# Altium footprint library 二极管.PcbLib: 7 footprints
Each footprint in its own frame and in the unit in brackets; x right, y up, seen from the top. Pads: shape width x height; smd on the part's side, far side on the other; paste and mask are expansions set on the pad; w line width, h text height; cw(c..) or ccw(c..) is an arc to the next point about the centre after c.
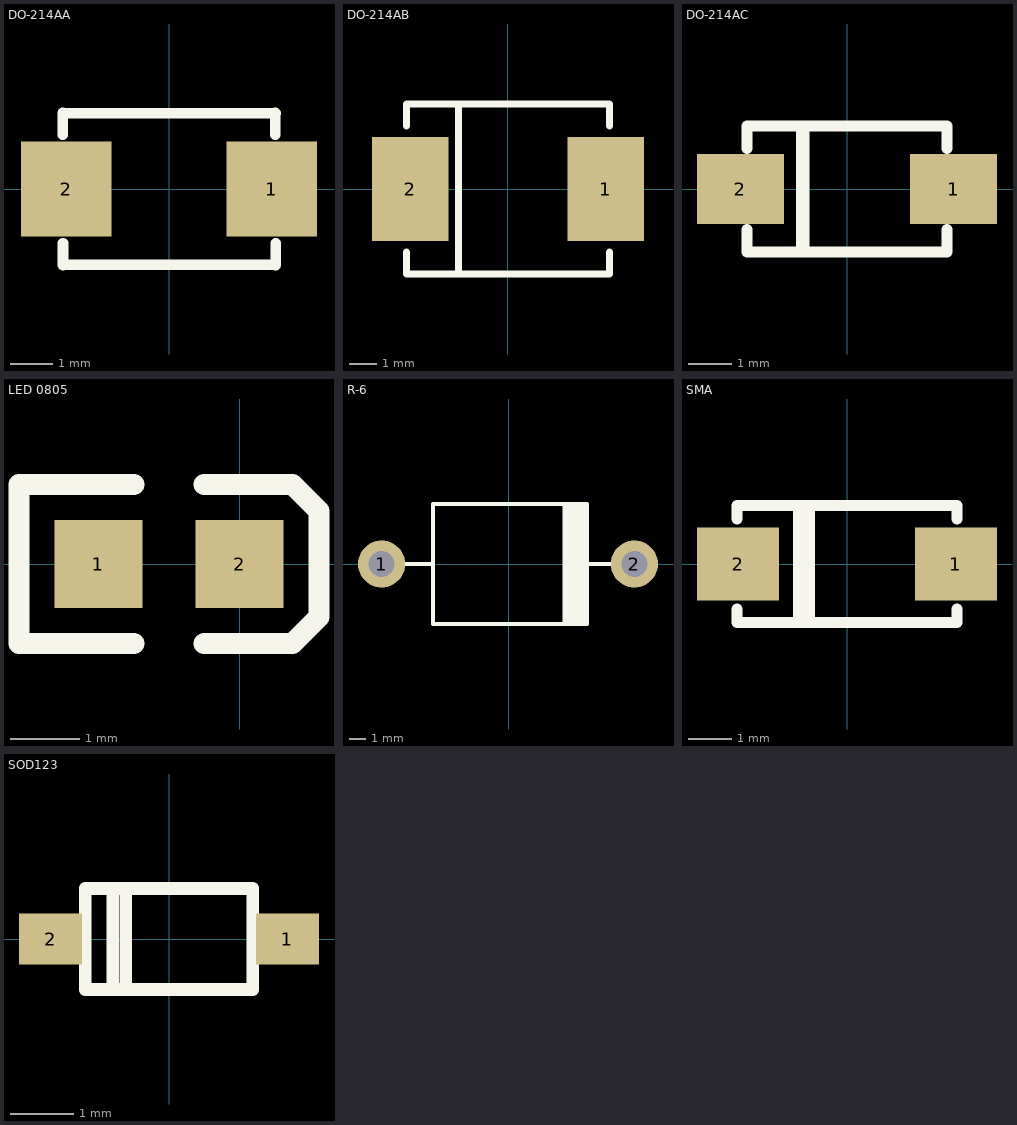
[diagram p0: the footprints below, top view; thin cyan lines are the x and y axes]

## DO-214AA [mm]
pads (2):
  rect 2.16x2.26 smd: 1(2.45,0) 2(-2.45,0)
Top Overlay:
  lines w0.254: -2.54,1.295 -2.54,1.814 ; -2.535,-1.81 2.545,-1.81 ; -2.535,1.81 2.545,1.81 ; -2.529,-1.814 -2.529,-1.295 ; 2.54,1.295 2.54,1.814 ; 2.551,-1.814 2.551,-1.295

## DO-214AB [mil]
pads (2):
  rect 110x150 smd: 1(140.49,0) 2(-140.49,0)
Top Overlay:
  lines w10: -145.67,-90.55 -145.67,-122.05 145.67,-122.05 145.67,-90.55 ; -145.67,90.55 -145.67,122.05 145.67,122.05 145.67,90.55 ; -70.87,-122.05 -70.87,122.05

## DO-214AC [mm]
pads (2):
  rect 2x1.6 smd: 1(2.45,0) 2(-2.45,0)
Top Overlay:
  rectangle: -1.168,-1.45 -0.864,1.45
  lines w0.254: -2.3,-0.932 -2.3,-1.45 2.3,-1.45 2.3,-0.932 ; -2.3,0.932 -2.3,1.45 2.3,1.45 2.3,0.932

## LED 0805 [mil]
pads (2):
  rect 50x50 smd: 1(-80,0) 2(0,0)
Top Overlay:
  lines w12: -60,-45 -125,-45 -125,45 -60,45 ; -20,-45 30,-45 45,-30 45,30 30,45 -20,45

## R-6 [mil]
pads (2):
  round 110 hole 60: 1(-297,0) 2(293.55,0)
Top Overlay:
  rectangle: 126,-140 183,140
  lines w10: -257.63,0 -178.89,0 ; 183,0 261.74,0 ; -177,-140 -177,140 183,140 183,-140 -177,-140

## SMA [mm]
pads (2):
  rect 1.9x1.7 smd: 1(2.52,0) 2(-2.52,0)
Top Overlay:
  lines w0.254: -2.54,-1.041 -2.54,-1.35 2.54,-1.35 2.54,-1.041 ; -2.54,1.041 -2.54,1.35 2.54,1.35 2.54,1.041 ; -1.118,-1.35 -1.118,1.35 ; -0.864,-1.299 -0.864,1.35

## SOD123 [mm]
pads (2):
  rect 1x0.8 smd: 1(1.875,0) 2(-1.875,0)
Top Overlay:
  lines w0.2: -0.889,-0.8 -0.889,0.8 ; -0.686,-0.8 -0.686,0.8 ; -1.325,-0.8 -1.325,0.8 1.325,0.8 1.325,-0.8 -1.325,-0.8